# EAGLE library part XR-88C681SP (library exar)
DUAL UART full duplex
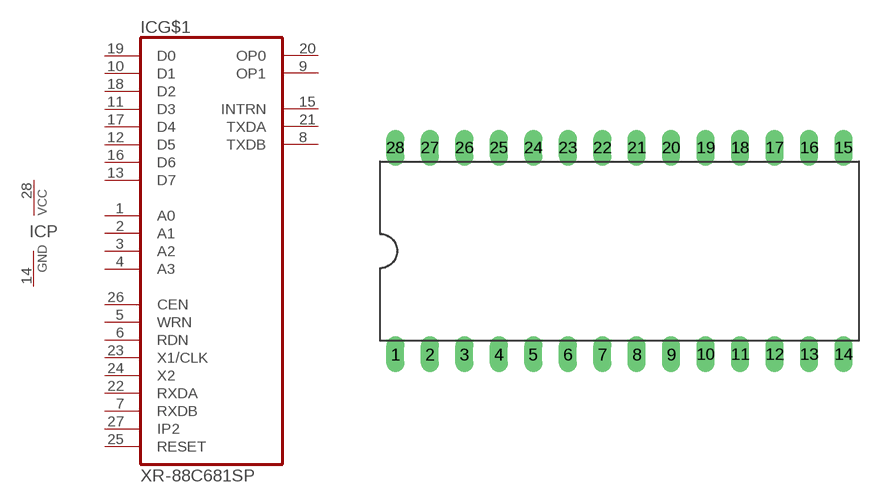
[diagram p80: symbol with the pads of DIL28-6; footprint DIL28-6]

Designator prefix IC; gates G$1=88C681SP P=PWRN

## XR-88C681SP  [DIL28-6]
1  G$1:A0  in
2  G$1:A1  in
3  G$1:A2  in
4  G$1:A3  in
5  G$1:WRN  in
6  G$1:RDN  in
7  G$1:RXDB  in
8  G$1:TXDB  out
9  G$1:OP1  out
10  G$1:D1
11  G$1:D3
12  G$1:D5
13  G$1:D7
14  P:GND  pwr
15  G$1:INTRN  out
16  G$1:D6
17  G$1:D4
18  G$1:D2
19  G$1:D0
20  G$1:OP0  out
21  G$1:TXDA  out
22  G$1:RXDA  in
23  G$1:X1/CLK  in
24  G$1:X2  in
25  G$1:RESET  in
26  G$1:CEN  in
27  G$1:IP2  in
28  P:VCC  pwr

## Footprint DIL28-6 (pad centres in mm)
Dual In Line Package 0.6 inch
drill 0.813 long: 1 -16.51,-7.62; 2 -13.97,-7.62; 3 -11.43,-7.62; 4 -8.89,-7.62; 5 -6.35,-7.62; 6 -3.81,-7.62; 7 -1.27,-7.62; 8 1.27,-7.62; 9 3.81,-7.62; 10 6.35,-7.62; 11 8.89,-7.62; 12 11.43,-7.62; 13 13.97,-7.62; 14 16.51,-7.62; 15 16.51,7.62; 16 13.97,7.62; 17 11.43,7.62; 18 8.89,7.62; 19 6.35,7.62; 20 3.81,7.62; 21 1.27,7.62; 22 -1.27,7.62; 23 -3.81,7.62; 24 -6.35,7.62; 25 -8.89,7.62; 26 -11.43,7.62; 27 -13.97,7.62; 28 -16.51,7.62